# EAGLE library part MAX3232EIDR (library MAX3232EIDR)
3-V to 5.5-V multichannel RS-232 line driver and receiver with +/-15-kV IEC ESD protection Source: Datasheet <http://www.ti.com/lit/gpn/max3232e>
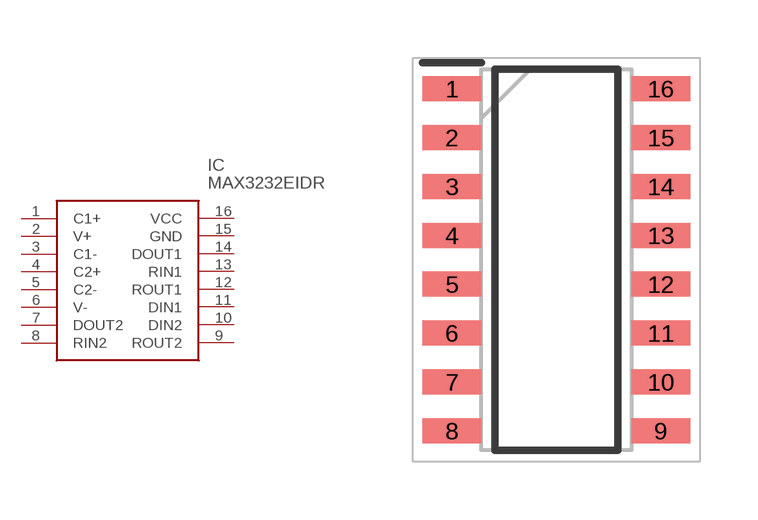
[diagram p0: symbol with the pads of SOIC127P600X175-16N; footprint SOIC127P600X175-16N]

Designator prefix IC

## MAX3232EIDR (Description: 3-V to 5.5-V multichannel RS-232 line driver and receiver with +/-15-kV IEC ESD protection; Height: 1.75mm; Manufacturer_Name: Texas Instruments; Manufacturer_Part_Number: MAX3232EIDR; Mouser_Part_Number: 595-MAX3232EIDR; Mouser_Price-Stock: https://www.mouser.co.uk/ProductDetail/Texas-Instruments/MAX3232EIDR?qs=paYhMW8qfitfJfSGA3hpAQ%3D%3D)  [SOIC127P600X175-16N]
1  C1+
2  V+
3  C1-
4  C2+
5  C2-
6  V-
7  DOUT2
8  RIN2
9  ROUT2
10  DIN2
11  DIN1
12  ROUT1
13  RIN1
14  DOUT1
15  GND
16  VCC

## Footprint SOIC127P600X175-16N (pad centres in mm)
D (R-PDSO-G16)
smd 1.525 x 0.65: 1 -2.712,4.445; 2 -2.712,3.175; 3 -2.712,1.905; 4 -2.712,0.635; 5 -2.712,-0.635; 6 -2.712,-1.905; 7 -2.712,-3.175; 8 -2.712,-4.445; 9 2.712,-4.445; 10 2.712,-3.175; 11 2.712,-1.905; 12 2.712,-0.635; 13 2.712,0.635; 14 2.712,1.905; 15 2.712,3.175; 16 2.712,4.445